# Altium schematic symbol library 2021-07-18_11-49-46.SchLib: 2 symbols
Pins are listed as number, name and electrical type; pins without a type are passive.

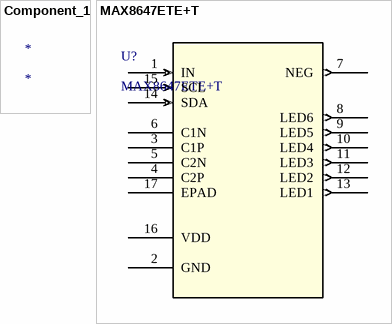
[diagram p0: symbols Component_1 to MAX8647ETE+T]

## Component_1
designator *

## MAX8647ETE+T
designator U?
No Description Available; SourceLibrary: Update_to_database_2021-01-29; Built_By: EMA_UL_Team; Vendor: Maxim Integrated Products; Revision: 4; Manufacturer_Part_Number: MAX8647ETE+T; Copyright: Copyright (C) 2021 Accelerated Designs. All rights reserved; RefDes: RefDes; Type: DEV
footprint 21-0136_T1633+5_MXM-L
pins: 1 IN (in), 2 GND (power), 3 C1P, 4 C2P, 5 C2N, 6 C1N, 7 NEG (out), 8 LED6 (out), 9 LED5 (out), 10 LED4 (out), 11 LED3 (out), 12 LED2 (out), 13 LED1 (out), 14 SDA (in), 15 SCL (in), 16 VDD (power), 17 EPAD